# Altium schematic symbol library TEENSY_3.Schlib: 1 symbol
Pins are listed as number, name and electrical type; pins without a type are passive.

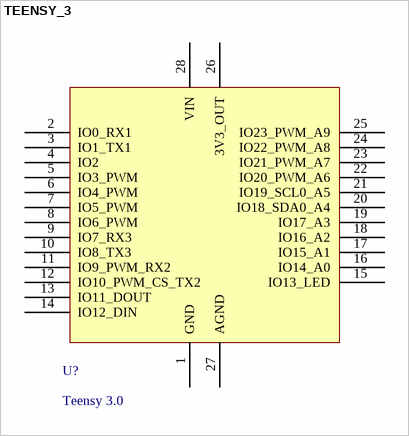
[diagram p0: symbol TEENSY_3]

## TEENSY_3
designator U?, comment Teensy 3.0
pins: 1 GND, 2 IO0_RX1, 3 IO1_TX1, 4 IO2, 5 IO3_PWM, 6 IO4_PWM, 7 IO5_PWM, 8 IO6_PWM, 9 IO7_RX3, 10 IO8_TX3, 11 IO9_PWM_RX2, 12 IO10_PWM_CS_TX2, 13 IO11_DOUT, 14 IO12_DIN, 15 IO13_LED, 16 IO14_A0, 17 IO15_A1, 18 IO16_A2, 19 IO17_A3, 20 IO18_SDA0_A4, 21 IO19_SCL0_A5, 22 IO20_PWM_A6, 23 IO21_PWM_A7, 24 IO22_PWM_A8, 25 IO23_PWM_A9, 26 3V3_OUT, 27 AGND, 28 VIN